# Altium footprint library Potentiometers.PcbLib: 3 footprints
Each footprint in its own frame and in the unit in brackets; x right, y up, seen from the top. Pads: shape width x height; smd on the part's side, far side on the other; paste and mask are expansions set on the pad; w line width, h text height; cw(c..) or ccw(c..) is an arc to the next point about the centre after c.
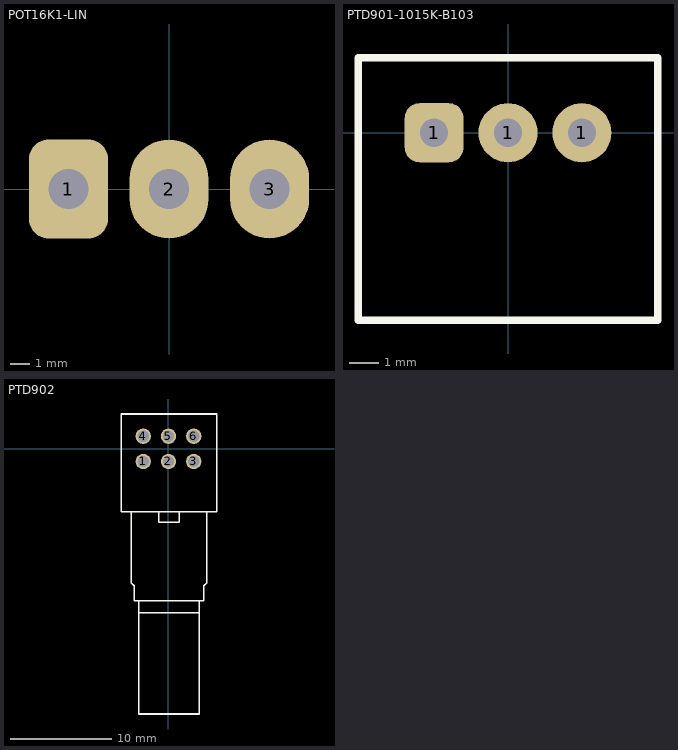
[diagram p0: the footprints below, top view; thin cyan lines are the x and y axes]

## POT16K1-LIN [mm]
pads (3):
  rrect50% 4x5 hole 2: 1(-5.08,0)
  oval 4x5 hole 2: 2(0,0) 3(5.08,0)
3D body "User Library-User Library-Potentiometer.step": height 21.38, standoff -3.56, extent -8.255,-18.415 8.509,5.715

## PTD901-1015K-B103 [mm]
pads (3):
  rrect50% 2x2 hole 0.95: 1(-2.5,0)
  round 2 hole 0.95: 1(0,0) 1(2.5,0)
Top Overlay:
  lines w0.254: -3.81,-6.35 0,-6.35 3.81,-6.35 ; -5.08,-6.35 -5.08,2.54 5.08,2.54 5.08,-6.35 -5.08,-6.35
3D body "ptd901-xx15k-xxxx.stp": height 11.35, standoff -3.5, extent -4.8,-20.018 4.8,2.132

## PTD902 [mm]
pads (6):
  round 1.524 hole 1.1: 1(-2.5,-1.25) 2(0,-1.25) 3(2.5,-1.25) 4(-2.5,1.25) 5(0,1.25) 6(2.5,1.25)
Top Overlay:
  lines w0.15: -3,-15.05 -2.95,-15.05 -2.95,-16.25 ; 3.1,-15.05 3.05,-15.05 3.05,-16.25 ; -2.95,-16.25 -2.95,-26.25 3.05,-26.25 3.05,-16.25 ; -2.95,-16.25 3.05,-16.25 ; -4.7,-6.25 -4.7,3.45 4.8,3.45 4.8,-6.25 -4.7,-6.25 ; -3.7,-13.25 -3.4,-13.55 -3.4,-15.05 3.5,-15.05 3.5,-13.55 3.8,-13.25 3.8,-6.25 -3.7,-6.25 -3.7,-13.25 ; -0.95,-7.25 1.05,-7.25 1.05,-6.25 -0.95,-6.25 -0.95,-7.25
3D body "Potentiometer PTD90 Series-1.step": height 11.8, standoff -3, extent -4.75,-21.202 4.75,3.45